# Altium footprint library Component_1.PcbLib: 10 footprints
Each footprint in its own frame and in the unit in brackets; x right, y up, seen from the top. Pads: shape width x height; smd on the part's side, far side on the other; paste and mask are expansions set on the pad; w line width, h text height; cw(c..) or ccw(c..) is an arc to the next point about the centre after c.
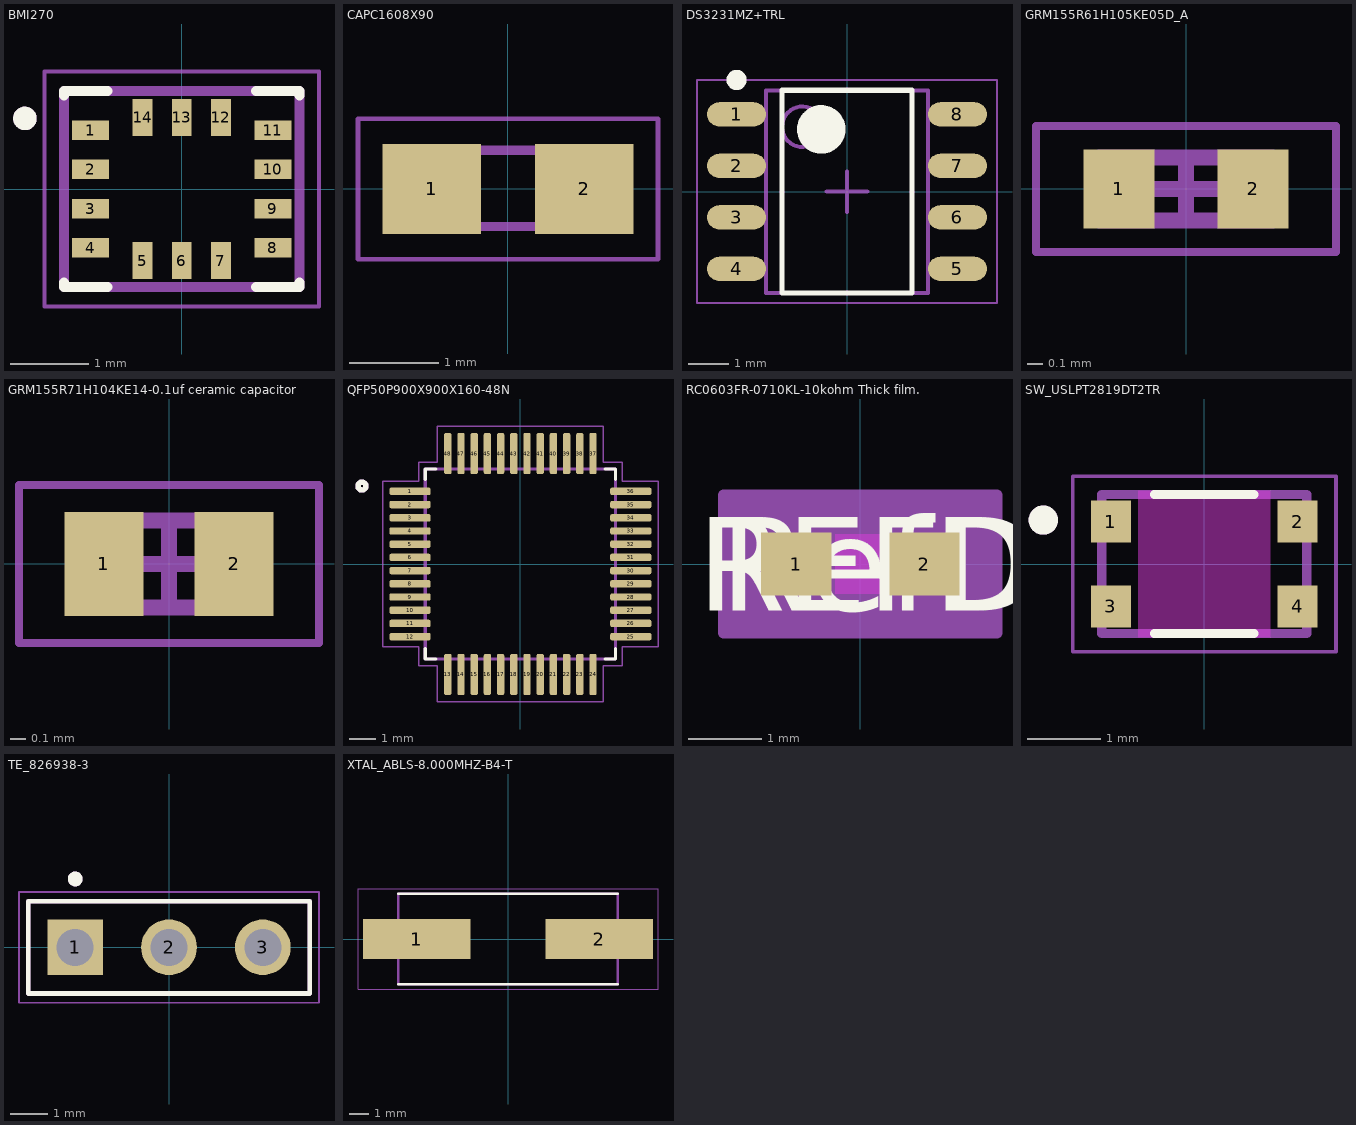
[diagram p0: the footprints below, top view; thin cyan lines are the x and y axes]

## BMI270 [mm]
height 0.87
pads (14):
  rect 0.475x0.25 smd: 1(-1.162,0.75) 2(-1.162,0.25) 3(-1.162,-0.25) 4(-1.162,-0.75) 8(1.162,-0.75) 9(1.162,-0.25) 10(1.162,0.25) 11(1.162,0.75)
  rect 0.25x0.475 smd: 5(-0.5,-0.913) 6(0,-0.913) 7(0.5,-0.913) 12(0.5,0.913) 13(0,0.913) 14(-0.5,0.913)
Top Overlay:
  circle w0.15: c-2,0.9 r0.075
  lines w0.127: -1.5,-1.195 -1.5,-1.25 -0.945,-1.25 ; -1.5,1.195 -1.5,1.25 -0.945,1.25 ; 0.945,-1.25 1.5,-1.25 1.5,-1.195 ; 0.945,1.25 1.5,1.25 1.5,1.195
Mechanical 13:
  circle w0.15: c-2,0.9 r0.075
  lines w0.127: -1.5,-1.25 1.5,-1.25 1.5,1.25 -1.5,1.25 -1.5,-1.25
Mechanical 15:
  lines w0.05: -1.75,-1.5 -1.75,1.5 1.75,1.5 1.75,-1.5 -1.75,-1.5
3D body "step_temp.STEP": height 0.87, standoff 0, extent -1.5,-1.255 1.5,1.245

## CAPC1608X90 [mm]
pads (2):
  rect 1.1x1 smd: 1(-0.85,0) 2(0.85,0)
Mechanical 13:
  region: -0.338,-0.47 -0.838,-0.47 -0.838,0.48 -0.338,0.48
  region: 0.83,-0.47 0.331,-0.47 0.331,0.48 0.83,0.48
  lines w0.102: -0.356,-0.419 0.356,-0.419 ; -0.356,0.432 0.356,0.432
Mechanical 15:
  lines w0.051: -1.673,-0.783 1.673,-0.783 1.673,0.783 -1.673,0.783 -1.673,-0.783
3D body "step_temp.STEP": height 0.87, standoff 0, extent -0.8,-0.4 0.8,0.4

## DS3231MZ+TRL [mm] "SOIC, 8-Leads, Body 4.90x3.90mm, Pitch 1.27mm, IPC Medium Density"
height 1.75
pads (8):
  oval 1.45x0.6 smd: 1(-2.725,1.905) 2(-2.725,0.635) 3(-2.725,-0.635) 4(-2.725,-1.905) 5(2.725,-1.905) 6(2.725,-0.635) 7(2.725,0.635) 8(2.725,1.905)
Top Overlay:
  circle w0.6: c-0.637,1.536 r0.3
  circle w0.25: c-2.725,2.755 r0.125
  lines w0.127: -1.6,-2.5 1.6,-2.5 1.6,2.5 -1.6,2.5 -1.6,-2.5
Mechanical 13:
  circle w0.1: c-1.1,1.6 r0.5
  lines w0.1: -2,-2.5 2,-2.5 2,2.5 -2,2.5 -2,-2.5
Mechanical 15:
  lines w0.05: -3.7,-2.75 3.7,-2.75 3.7,2.75 -3.7,2.75 -3.7,-2.75
  lines w0.1: -0.5,0 0.5,0 ; 0,-0.5 0,0.5
3D body "SOIC127P600X175-8N.step": height 1.75, standoff 0, extent -3,-2.5 3,2.5

## GRM155R61H105KE05D_A [mm] "1 µF ±10% 50V Ceramic Capacitor X5R 0402 (1005 Metric)"
height 0.6
pads (2):
  rect 0.45x0.5 smd mask+0.05: 1(-0.425,0) 2(0.425,0)
Mechanical 13:
  lines w0.1: -0.55,-0.2 0.55,-0.2 0.55,0.2 -0.55,0.2 -0.55,-0.2
Mechanical 15:
  lines w0.05: -0.95,-0.4 0.95,-0.4 0.95,0.4 -0.95,0.4 -0.95,-0.4
  lines w0.1: -0.2,0 0.2,0 ; 0,-0.2 0,0.2
3D body "CAPC1005X06N.step": height 0.6, standoff 0, extent -0.55,-0.2 0.55,0.2

## GRM155R71H104KE14-0.1uf ceramic capacitor [mm]
height 0.55
pads (2):
  rect 0.5x0.66 smd: 1(-0.413,0) 2(0.412,0)
Mechanical 13:
  lines w0.1: -0.525,-0.275 -0.525,0.275 0.525,0.275 0.525,-0.275 -0.525,-0.275
Mechanical 15:
  lines w0.05: -0.95,-0.5 -0.95,0.5 0.95,0.5 0.95,-0.5 -0.95,-0.5
  lines w0.1: -0.275,0 0.275,0 ; 0,-0.275 0,0.275
3D body "GRM155R71H104KE14-0.1uf ceramic capacitor.step": height 0.55, standoff 0, extent -0.525,-0.275 0.525,0.275

## QFP50P900X900X160-48N [mm]
pads (48):
  rrect50% 1.56x0.28 smd: 1(-4.18,2.75) 2(-4.18,2.25) 3(-4.18,1.75) 4(-4.18,1.25) 5(-4.18,0.75) 6(-4.18,0.25) 7(-4.18,-0.25) 8(-4.18,-0.75) 9(-4.18,-1.25) 10(-4.18,-1.75) 11(-4.18,-2.25) 12(-4.18,-2.75) 25(4.18,-2.75) 26(4.18,-2.25) 27(4.18,-1.75) 28(4.18,-1.25) 29(4.18,-0.75) 30(4.18,-0.25) 31(4.18,0.25) 32(4.18,0.75) 33(4.18,1.25) 34(4.18,1.75) 35(4.18,2.25) 36(4.18,2.75)
  rrect50% 0.28x1.56 smd: 13(-2.75,-4.18) 14(-2.25,-4.18) 15(-1.75,-4.18) 16(-1.25,-4.18) 17(-0.75,-4.18) 18(-0.25,-4.18) 19(0.25,-4.18) 20(0.75,-4.18) 21(1.25,-4.18) 22(1.75,-4.18) 23(2.25,-4.18) 24(2.75,-4.18) 37(2.75,4.18) 38(2.25,4.18) 39(1.75,4.18) 40(1.25,4.18) 41(0.75,4.18) 42(0.25,4.18) 43(-0.25,4.18) 44(-0.75,4.18) 45(-1.25,4.18) 46(-1.75,4.18) 47(-2.25,4.18) 48(-2.75,4.18)
Top Overlay:
  circle w0.2: c-6,2.95 r0.15
  lines w0.127: -3.6,-3.21 -3.6,-3.6 -3.21,-3.6 ; -3.6,3.21 -3.6,3.6 -3.21,3.6 ; 3.21,-3.6 3.6,-3.6 3.6,-3.21 ; 3.21,3.6 3.6,3.6 3.6,3.21
Mechanical 13:
  circle w0.2: c-6,2.95 r0.15
  lines w0.127: -3.6,-3.6 -3.6,3.6 3.6,3.6 3.6,-3.6 -3.6,-3.6
Mechanical 15:
  lines w0.05: -5.21,-3.14 -5.21,3.14 -3.85,3.14 -3.85,3.85 -3.14,3.85 -3.14,5.21 3.14,5.21 3.14,3.85 3.85,3.85 3.85,3.14 5.21,3.14 5.21,-3.14 3.85,-3.14 3.85,-3.85 3.14,-3.85 3.14,-5.21 -3.14,-5.21 -3.14,-3.85 -3.85,-3.85 -3.85,-3.14 -5.21,-3.14
3D body "step_temp.STEP": height 1.6, standoff 0, extent -4.5,-4.5 4.5,4.5

## RC0603FR-0710KL-10kohm Thick film. [mm] "10 kOhms ±1% 0.1W, 1/10W Chip Resistor 0603 (1608 Metric) Moisture Resistant Thick Film"
pads (2):
  rect 0.956x0.863 smd paste+0 mask+0: 1(-0.872,0) 2(0.872,0)
Top Layer keep-out:
  region: -0.343,-0.356 -0.343,0.356 0.343,0.356 0.343,-0.356
Top Overlay:
  text "RefDes" at -1.905,-0.635 h1.27
  text "REFDES" at -2.222,-0.635 h1.27
Keep-Out Layer:
  region: -0.343,-0.406 -0.343,0.406 0.343,0.406 0.343,-0.406
Mechanical 13:
  lines w0.025: -0.8,-0.406 -0.8,0.406 ; -0.8,-0.406 -0.394,-0.406 -0.394,0.406 -0.8,0.406 ; -0.8,-0.406 0.8,-0.406 ; -0.8,-0.406 -0.8,0.406 ; -0.8,0.406 0.8,0.406 ; 0.8,-0.406 0.394,-0.406 0.394,0.406 0.8,0.406 ; 0.8,-0.406 0.8,0.406 ; 0.8,-0.406 0.8,0.406
  text "RefDes2" at -2.222,-0.635 h1.27
Mechanical 15:
  region: 1.858,-0.939 -1.858,-0.939 -1.858,0.939 1.858,0.939
  lines w0.152: -1.858,-0.939 -1.858,0.939 1.858,0.939 1.858,-0.939 -1.858,-0.939
3D body "RC0603N_YAG.step": height 0.71, standoff 0, extent -0.8,-0.406 0.8,0.406

## SW_USLPT2819DT2TR [mm]
pads (4):
  rect 0.55x0.57 smd: 1(-1.275,0.58) 2(1.275,0.58) 3(-1.275,-0.58) 4(1.275,-0.58)
Top Overlay:
  circle w0.2: c-2.2,0.6 r0.1
  lines w0.127: -0.68,-0.95 0.68,-0.95 ; -0.68,0.95 0.68,0.95
Keep-Out Layer:
  region: 0.9,-1 -0.9,-1 -0.9,1 0.9,1
Mechanical 13:
  circle w0.2: c-2.2,0.6 r0.1
  lines w0.127: -1.4,-0.95 -1.4,0.95 1.4,0.95 1.4,-0.95 -1.4,-0.95
Mechanical 15:
  lines w0.05: -1.8,-1.2 -1.8,1.2 1.8,1.2 1.8,-1.2 -1.8,-1.2
3D body "USLPT2819DT2TR--3DModel-STEP-56544.STEP": height 0.6, standoff 0, extent -1.5,-1.016 1.5,0.884

## TE_826938-3 [mm]
pads (3):
  rect 1.508x1.508 hole 1: 1(-2.54,0)
  round 1.508 hole 1: 2(0,0) 3(2.54,0)
Top Overlay:
  circle w0.2: c-2.54,1.85 r0.1
  lines w0.127: -3.81,-1.25 3.81,-1.25 3.81,1.25 -3.81,1.25 -3.81,-1.25
Mechanical 13:
  circle w0.2: c-2.54,1.85 r0.1
  lines w0.127: -3.81,-1.25 3.81,-1.25 3.81,1.25 -3.81,1.25 -3.81,-1.25
Mechanical 15:
  lines w0.05: -4.06,-1.5 4.06,-1.5 4.06,1.5 -4.06,1.5 -4.06,-1.5

## XTAL_ABLS-8.000MHZ-B4-T [mm]
height 4.2
pads (2):
  rect 5.6x2.1 smd: 1(-4.75,0) 2(4.75,0)
Top Overlay:
  lines w0.127: -5.7,-2.35 5.7,-2.35 ; -5.7,2.35 5.7,2.35
Mechanical 13:
  lines w0.127: -5.7,-2.35 5.7,-2.35 5.7,2.35 -5.7,2.35 -5.7,-2.35
Mechanical 15:
  lines w0.05: -7.8,-2.6 7.8,-2.6 7.8,2.6 -7.8,2.6 -7.8,-2.6
3D body "step_temp.STEP": height 4.2, standoff 0, extent -6.35,-2.35 6.35,2.35